# EAGLE library part J00-0065NL (library Connector2)
1 Port RJ45 Magjack Connector Through Hole 10/100 Base-TX, AutoMDIX Datasheet <https://productfinder.pulseeng.com/doc_type/WEB301/doc_num/J403/doc_part/J403.pdf>
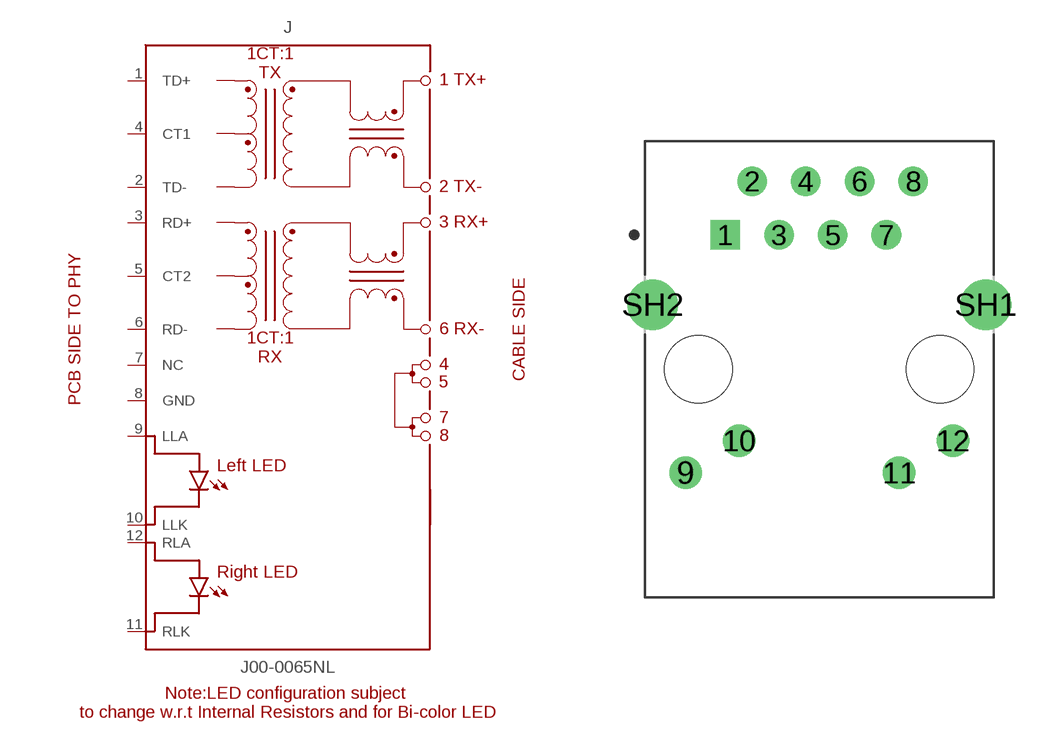
[diagram p2: symbol with the pads of J00-0065NL; footprint J00-0065NL]

Designator prefix J

## J00-0065NL (CATEGORY: Connector; DESCRIPTION: 1 Port RJ45 Magjack Connector Through Hole 10/100 Base-TX, AutoMDIX; MANUFACTURER: Pulse Electronics Network; MPN: J00-0065NL; OPERATING_TEMP: 0°C to 70°C; PART_STATUS: Active; ROHS_COMPLIANT: RoHS Compliant; SERIES: PULSEJACK™ J00; SUB-CATEGORY: Modular Connectors - Jacks With Magnetics; TYPE: RJ45)  [J00-0065NL]
1  TD+  in
2  TD-  in
3  RD+  in
4  CT1  in
5  CT2  in
6  RD-  in
7  NC  nc
8  GND  pwr
9  LLA  pas
10  LLK  pas
11  RLK  pas
12  RLA  pas

## Footprint J00-0065NL (pad centres in mm)
drill 0.89 square: 1 0,0
drill 0.89: 2 1.27,2.54; 3 2.54,0; 4 3.81,2.54; 5 5.08,0; 6 6.35,2.54; 7 7.62,0; 8 8.89,2.54
drill 1.02: 9 -1.88,-11.25; 10 0.66,-9.73; 11 8.23,-11.25; 12 10.77,-9.73
drill 1.6: SH1 12.32,-3.3; SH2 -3.43,-3.3
hole 3.2 at 10.16,-6.35
hole 3.2 at -1.27,-6.35